# Altium schematic symbol library WCAP-HTG5.SchLib: 17 symbols
Pins are listed as number, name and electrical type; pins without a type are passive.

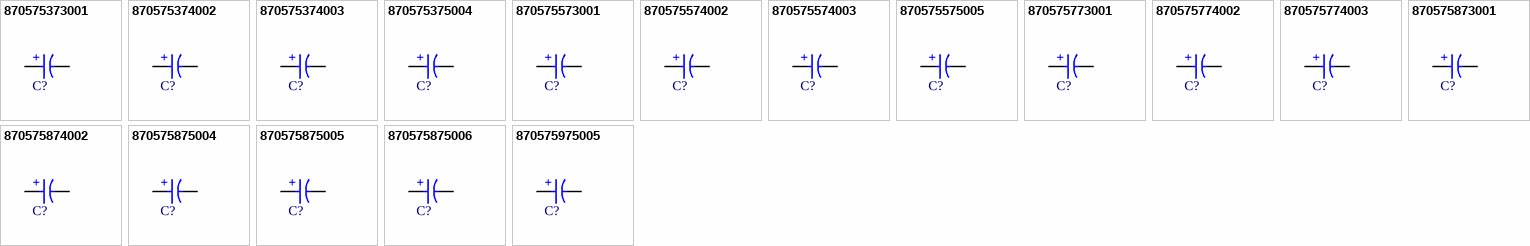
[diagram p0: symbols 870575373001 to 870575975005]

## 870575373001
designator C?, comment 120uF  (value not drawn)
WCAP-HTG5 Aluminum Hybrid Polymer Capacitor, THT, D6.3 x H8mm, 120uF, 16V; Manufacturer Part Number: 870575373001; Manufacturer: Wurth Elektronik; Dissipation Factor: 16%; Endurance: 5000h; ESR: 40mOhm; Leakage Current: 19.2uA; Ripple Current: 1500mA; Category: Aluminum Hybrid Polymer Capacitors; Match Code: WCAP-HTG5; ComponentLink1Description: Website Link; ComponentLink1URL: https://www.we-online.com/redexpert/article/870575373001?ad; ComponentLink2Description: Datasheet Link; ComponentLink2URL: https://www.we-online.com/redexpert/spec/870575373001?ad; Mount: Through Hole; Operating Temperature Max: 105°C; Operating Temperature Min: -55°C; Packaging: Ammo Pack; Height: 8mm; Diameter: 6.3mm; Capacitance: 120uF; Rated Voltage (DC): 16V
footprint WCAP-HTG5_D6.3H8
simulation model 870575373001_120uF
pins: 1 P, 2 N
text: +

## 870575374002
designator C?, comment 270uF  (value not drawn)
WCAP-HTG5 Aluminum Hybrid Polymer Capacitor, THT, D8 x H9mm, 270uF, 16V; Manufacturer Part Number: 870575374002; Manufacturer: Wurth Elektronik; Dissipation Factor: 16%; Endurance: 10000h; ESR: 26mOhm; Leakage Current: 43.2uA; Ripple Current: 2000mA; Category: Aluminum Hybrid Polymer Capacitors; Match Code: WCAP-HTG5; ComponentLink1Description: Website Link; ComponentLink1URL: https://www.we-online.com/redexpert/article/870575374002?ad; ComponentLink2Description: Datasheet Link; ComponentLink2URL: https://www.we-online.com/redexpert/spec/870575374002?ad; Mount: Through Hole; Operating Temperature Max: 105°C; Operating Temperature Min: -55°C; Packaging: Ammo Pack; Height: 9mm; Diameter: 8mm; Capacitance: 270uF; Rated Voltage (DC): 16V
footprint WCAP-HTG5_D8H9
pins: 1 P, 2 N
text: +

## 870575374003
designator C?, comment 330uF  (value not drawn)
WCAP-HTG5 Aluminum Hybrid Polymer Capacitor, THT, D8 x H11.5mm, 330uF, 16V; Manufacturer Part Number: 870575374003; Manufacturer: Wurth Elektronik; Dissipation Factor: 16%; Endurance: 10000h; ESR: 23mOhm; Leakage Current: 52.8uA; Ripple Current: 2350mA; Category: Aluminum Hybrid Polymer Capacitors; Match Code: WCAP-HTG5; ComponentLink1Description: Website Link; ComponentLink1URL: https://www.we-online.com/redexpert/article/870575374003?ad; ComponentLink2Description: Datasheet Link; ComponentLink2URL: https://www.we-online.com/redexpert/spec/870575374003?ad; Mount: Through Hole; Operating Temperature Max: 105°C; Operating Temperature Min: -55°C; Packaging: Ammo Pack; Height: 11.5mm; Diameter: 8mm; Capacitance: 330uF; Rated Voltage (DC): 16V
footprint WCAP-HTG5_D8H11.5
simulation model 870575374003_330uF
pins: 1 P, 2 N
text: +

## 870575375004
designator C?, comment 470uF  (value not drawn)
WCAP-HTG5 Aluminum Hybrid Polymer Capacitor, THT, D10 x H10mm, 470uF, 16V; Manufacturer Part Number: 870575375004; Manufacturer: Wurth Elektronik; Dissipation Factor: 16%; Endurance: 10000h; ESR: 21mOhm; Leakage Current: 75.2uA; Ripple Current: 2600mA; Category: Aluminum Hybrid Polymer Capacitors; Match Code: WCAP-HTG5; ComponentLink1Description: Website Link; ComponentLink1URL: https://www.we-online.com/redexpert/article/870575375004?ad; ComponentLink2Description: Datasheet Link; ComponentLink2URL: https://www.we-online.com/redexpert/spec/870575375004?ad; Mount: Through Hole; Operating Temperature Max: 105°C; Operating Temperature Min: -55°C; Packaging: Ammo Pack; Height: 10mm; Diameter: 10mm; Capacitance: 470uF; Rated Voltage (DC): 16V
footprint WCAP-HTG5_D10H10
simulation model 870575375004_470uF
pins: 1 P, 2 N
text: +

## 870575573001
designator C?, comment 68uF  (value not drawn)
WCAP-HTG5 Aluminum Hybrid Polymer Capacitor, THT, D6.3 x H8mm, 68uF, 25V; Manufacturer Part Number: 870575573001; Manufacturer: Wurth Elektronik; Dissipation Factor: 16%; Endurance: 5000h; ESR: 45mOhm; Leakage Current: 17uA; Ripple Current: 1400mA; Category: Aluminum Hybrid Polymer Capacitors; Match Code: WCAP-HTG5; ComponentLink1Description: Website Link; ComponentLink1URL: https://www.we-online.com/redexpert/article/870575573001?ad; ComponentLink2Description: Datasheet Link; ComponentLink2URL: https://www.we-online.com/redexpert/spec/870575573001?ad; Mount: Through Hole; Operating Temperature Max: 105°C; Operating Temperature Min: -55°C; Packaging: Ammo Pack; Height: 8mm; Diameter: 6.3mm; Capacitance: 68uF; Rated Voltage (DC): 25V
footprint WCAP-HTG5_D6.3H8
simulation model 870575573001_68uF
pins: 1 P, 2 N
text: +

## 870575574002
designator C?, comment 150uF  (value not drawn)
WCAP-HTG5 Aluminum Hybrid Polymer Capacitor, THT, D8 x H9mm, 150uF, 25V; Manufacturer Part Number: 870575574002; Manufacturer: Wurth Elektronik; Dissipation Factor: 16%; Endurance: 10000h; ESR: 27mOhm; Leakage Current: 37.5uA; Ripple Current: 1900mA; Category: Aluminum Hybrid Polymer Capacitors; Match Code: WCAP-HTG5; ComponentLink1Description: Website Link; ComponentLink1URL: https://www.we-online.com/redexpert/article/870575574002?ad; ComponentLink2Description: Datasheet Link; ComponentLink2URL: https://www.we-online.com/redexpert/spec/870575574002?ad; Mount: Through Hole; Operating Temperature Max: 105°C; Operating Temperature Min: -55°C; Packaging: Ammo Pack; Height: 9mm; Diameter: 8mm; Capacitance: 150uF; Rated Voltage (DC): 25V
footprint WCAP-HTG5_D8H9
simulation model 870575574002_150uF
pins: 1 P, 2 N
text: +

## 870575574003
designator C?, comment 220uF  (value not drawn)
WCAP-HTG5 Aluminum Hybrid Polymer Capacitor, THT, D8 x H11.5mm, 220uF, 25V; Manufacturer Part Number: 870575574003; Manufacturer: Wurth Elektronik; Dissipation Factor: 16%; Endurance: 10000h; ESR: 24mOhm; Leakage Current: 55uA; Ripple Current: 2250mA; Category: Aluminum Hybrid Polymer Capacitors; Match Code: WCAP-HTG5; ComponentLink1Description: Website Link; ComponentLink1URL: https://www.we-online.com/redexpert/article/870575574003?ad; ComponentLink2Description: Datasheet Link; ComponentLink2URL: https://www.we-online.com/redexpert/spec/870575574003?ad; Mount: Through Hole; Operating Temperature Max: 105°C; Operating Temperature Min: -55°C; Packaging: Ammo Pack; Height: 11.5mm; Diameter: 8mm; Capacitance: 220uF; Rated Voltage (DC): 25V
footprint WCAP-HTG5_D8H11.5
simulation model 870575574003_220uF
pins: 1 P, 2 N
text: +

## 870575575005
designator C?, comment 330uF  (value not drawn)
WCAP-HTG5 Aluminum Hybrid Polymer Capacitor, THT, D10 x H12.5mm, 330uF, 25V; Manufacturer Part Number: 870575575005; Manufacturer: Wurth Elektronik; Dissipation Factor: 16%; Endurance: 10000h; ESR: 16mOhm; Leakage Current: 82.5uA; Ripple Current: 2900mA; Category: Aluminum Hybrid Polymer Capacitors; Match Code: WCAP-HTG5; ComponentLink1Description: Website Link; ComponentLink1URL: https://www.we-online.com/redexpert/article/870575575005?ad; ComponentLink2Description: Datasheet Link; ComponentLink2URL: https://www.we-online.com/redexpert/spec/870575575005?ad; Mount: Through Hole; Operating Temperature Max: 105°C; Operating Temperature Min: -55°C; Packaging: Ammo Pack; Height: 12.5mm; Diameter: 10mm; Capacitance: 330uF; Rated Voltage (DC): 25V
footprint WCAP-HTG5_D10H12.5
simulation model 870575575005_330uF
pins: 1 P, 2 N
text: +

## 870575773001
designator C?, comment 15uF  (value not drawn)
WCAP-HTG5 Aluminum Hybrid Polymer Capacitor, THT, D6.3 x H8mm, 15uF, 50V; Manufacturer Part Number: 870575773001; Manufacturer: Wurth Elektronik; Dissipation Factor: 16%; Endurance: 5000h; ESR: 80mOhm; Leakage Current: 7.5uA; Ripple Current: 1200mA; Category: Aluminum Hybrid Polymer Capacitors; Match Code: WCAP-HTG5; ComponentLink1Description: Website Link; ComponentLink1URL: https://www.we-online.com/redexpert/article/870575773001?ad; ComponentLink2Description: Datasheet Link; ComponentLink2URL: https://www.we-online.com/redexpert/spec/870575773001?ad; Mount: Through Hole; Operating Temperature Max: 105°C; Operating Temperature Min: -55°C; Packaging: Ammo Pack; Height: 8mm; Diameter: 6.3mm; Capacitance: 15uF; Rated Voltage (DC): 50V
footprint WCAP-HTG5_D6.3H8
simulation model 870575773001_15uF
pins: 1 P, 2 N
text: +

## 870575774002
designator C?, comment 33uF  (value not drawn)
WCAP-HTG5 Aluminum Hybrid Polymer Capacitor, THT, D8 x H9mm, 33uF, 50V; Manufacturer Part Number: 870575774002; Manufacturer: Wurth Elektronik; Dissipation Factor: 16%; Endurance: 10000h; ESR: 35mOhm; Leakage Current: 16.5uA; Ripple Current: 1670mA; Category: Aluminum Hybrid Polymer Capacitors; Match Code: WCAP-HTG5; ComponentLink1Description: Website Link; ComponentLink1URL: https://www.we-online.com/redexpert/article/870575774002?ad; ComponentLink2Description: Datasheet Link; ComponentLink2URL: https://www.we-online.com/redexpert/spec/870575774002?ad; Mount: Through Hole; Operating Temperature Max: 105°C; Operating Temperature Min: -55°C; Packaging: Ammo Pack; Height: 9mm; Diameter: 8mm; Capacitance: 33uF; Rated Voltage (DC): 50V
footprint WCAP-HTG5_D8H9
simulation model 870575774002_33uF
pins: 1 P, 2 N
text: +

## 870575774003
designator C?, comment 47uF  (value not drawn)
WCAP-HTG5 Aluminum Hybrid Polymer Capacitor, THT, D8 x H11.5mm, 47uF, 50V; Manufacturer Part Number: 870575774003; Manufacturer: Wurth Elektronik; Dissipation Factor: 16%; Endurance: 10000h; ESR: 30mOhm; Leakage Current: 23.5uA; Ripple Current: 1900mA; Category: Aluminum Hybrid Polymer Capacitors; Match Code: WCAP-HTG5; ComponentLink1Description: Website Link; ComponentLink1URL: https://www.we-online.com/redexpert/article/870575774003?ad; ComponentLink2Description: Datasheet Link; ComponentLink2URL: https://www.we-online.com/redexpert/spec/870575774003?ad; Mount: Through Hole; Operating Temperature Max: 105°C; Operating Temperature Min: -55°C; Packaging: Ammo Pack; Height: 11.5mm; Diameter: 8mm; Capacitance: 47uF; Rated Voltage (DC): 50V
footprint WCAP-HTG5_D8H11.5
simulation model 870575774003_47uF
pins: 1 P, 2 N
text: +

## 870575873001
designator C?, comment 10uF  (value not drawn)
WCAP-HTG5 Aluminum Hybrid Polymer Capacitor, THT, D6.3 x H8mm, 10uF, 63V; Manufacturer Part Number: 870575873001; Manufacturer: Wurth Elektronik; Dissipation Factor: 16%; Endurance: 5000h; ESR: 100mOhm; Leakage Current: 6.3uA; Ripple Current: 1060mA; Category: Aluminum Hybrid Polymer Capacitors; Match Code: WCAP-HTG5; ComponentLink1Description: Website Link; ComponentLink1URL: https://www.we-online.com/redexpert/article/870575873001?ad; ComponentLink2Description: Datasheet Link; ComponentLink2URL: https://www.we-online.com/redexpert/spec/870575873001?ad; Mount: Through Hole; Operating Temperature Max: 105°C; Operating Temperature Min: -55°C; Packaging: Ammo Pack; Height: 8mm; Diameter: 6.3mm; Capacitance: 10uF; Rated Voltage (DC): 63V
footprint WCAP-HTG5_D6.3H8
simulation model 870575873001_10uF
pins: 1 P, 2 N
text: +

## 870575874002
designator C?, comment 22uF  (value not drawn)
WCAP-HTG5 Aluminum Hybrid Polymer Capacitor, THT, D8 x H9mm, 22uF, 63V; Manufacturer Part Number: 870575874002; Manufacturer: Wurth Elektronik; Dissipation Factor: 16%; Endurance: 10000h; ESR: 40mOhm; Leakage Current: 13.9uA; Ripple Current: 1560mA; Category: Aluminum Hybrid Polymer Capacitors; Match Code: WCAP-HTG5; ComponentLink1Description: Website Link; ComponentLink1URL: https://www.we-online.com/redexpert/article/870575874002?ad; ComponentLink2Description: Datasheet Link; ComponentLink2URL: https://www.we-online.com/redexpert/spec/870575874002?ad; Mount: Through Hole; Operating Temperature Max: 105°C; Operating Temperature Min: -55°C; Packaging: Ammo Pack; Height: 9mm; Diameter: 8mm; Capacitance: 22uF; Rated Voltage (DC): 63V
footprint WCAP-HTG5_D8H9
simulation model 870575874002_22uF
pins: 1 P, 2 N
text: +

## 870575875004
designator C?, comment 33uF  (value not drawn)
WCAP-HTG5 Aluminum Hybrid Polymer Capacitor, THT, D10 x H10mm, 33uF, 63V; Manufacturer Part Number: 870575875004; Manufacturer: Wurth Elektronik; Dissipation Factor: 16%; Endurance: 10000h; ESR: 30mOhm; Leakage Current: 20.8uA; Ripple Current: 2100mA; Category: Aluminum Hybrid Polymer Capacitors; Match Code: WCAP-HTG5; ComponentLink1Description: Website Link; ComponentLink1URL: https://www.we-online.com/redexpert/article/870575875004?ad; ComponentLink2Description: Datasheet Link; ComponentLink2URL: https://www.we-online.com/redexpert/spec/870575875004?ad; Mount: Through Hole; Operating Temperature Max: 105°C; Operating Temperature Min: -55°C; Packaging: Ammo Pack; Height: 10mm; Diameter: 10mm; Capacitance: 33uF; Rated Voltage (DC): 63V
footprint WCAP-HTG5_D10H10
simulation model 870575875004_33uF
pins: 1 P, 2 N
text: +

## 870575875005
designator C?, comment 47uF  (value not drawn)
WCAP-HTG5 Aluminum Hybrid Polymer Capacitor, THT, D10 x H10mm, 47uF, 63V; Manufacturer Part Number: 870575875005; Manufacturer: Wurth Elektronik; Dissipation Factor: 16%; Endurance: 10000h; ESR: 30mOhm; Leakage Current: 29.6uA; Ripple Current: 2100mA; Category: Aluminum Hybrid Polymer Capacitors; Match Code: WCAP-HTG5; ComponentLink1Description: Website Link; ComponentLink1URL: https://www.we-online.com/redexpert/article/870575875005?ad; ComponentLink2Description: Datasheet Link; ComponentLink2URL: https://www.we-online.com/redexpert/spec/870575875005?ad; Mount: Through Hole; Operating Temperature Max: 105°C; Operating Temperature Min: -55°C; Packaging: Ammo Pack; Height: 10mm; Diameter: 10mm; Capacitance: 47uF; Rated Voltage (DC): 63V
footprint WCAP-HTG5_D10H10
simulation model 870575875005_47uF
pins: 1 P, 2 N
text: +

## 870575875006
designator C?, comment 56uF  (value not drawn)
WCAP-HTG5 Aluminum Hybrid Polymer Capacitor, THT, D10 x H12.5mm, 56uF, 63V; Manufacturer Part Number: 870575875006; Manufacturer: Wurth Elektronik; Dissipation Factor: 16%; Endurance: 10000h; ESR: 22mOhm; Leakage Current: 35.3uA; Ripple Current: 2400mA; Category: Aluminum Hybrid Polymer Capacitors; Match Code: WCAP-HTG5; ComponentLink1Description: Website Link; ComponentLink1URL: https://www.we-online.com/redexpert/article/870575875006?ad; ComponentLink2Description: Datasheet Link; ComponentLink2URL: https://www.we-online.com/redexpert/spec/870575875006?ad; Mount: Through Hole; Operating Temperature Max: 105°C; Operating Temperature Min: -55°C; Packaging: Ammo Pack; Height: 12.5mm; Diameter: 10mm; Capacitance: 56uF; Rated Voltage (DC): 63V
footprint WCAP-HTG5_D10H12.5
simulation model 870575875006_56uF
pins: 1 P, 2 N
text: +

## 870575975005
designator C?, comment 15uF  (value not drawn)
WCAP-HTG5 Aluminum Hybrid Polymer Capacitor, THT, D10 x H12.5mm, 15uF, 100V; Manufacturer Part Number: 870575975005; Manufacturer: Wurth Elektronik; Dissipation Factor: 16%; Endurance: 10000h; ESR: 60mOhm; Leakage Current: 15uA; Ripple Current: 1660mA; Category: Aluminum Hybrid Polymer Capacitors; Match Code: WCAP-HTG5; ComponentLink1Description: Website Link; ComponentLink1URL: https://www.we-online.com/redexpert/article/870575975005?ad; ComponentLink2Description: Datasheet Link; ComponentLink2URL: https://www.we-online.com/redexpert/spec/870575975005?ad; Mount: Through Hole; Operating Temperature Max: 105°C; Operating Temperature Min: -55°C; Packaging: Ammo Pack; Height: 12.5mm; Diameter: 10mm; Capacitance: 15uF; Rated Voltage (DC): 100V
footprint WCAP-HTG5_D10H12.5
simulation model 870575975005_15uF
pins: 1 P, 2 N
text: +